# EAGLE library part ATMEGA644P/V_PDIP (library AVR micom)
ATMEGA644P/V PDIP pacage AVR micon series. producted by ATMEL.Co
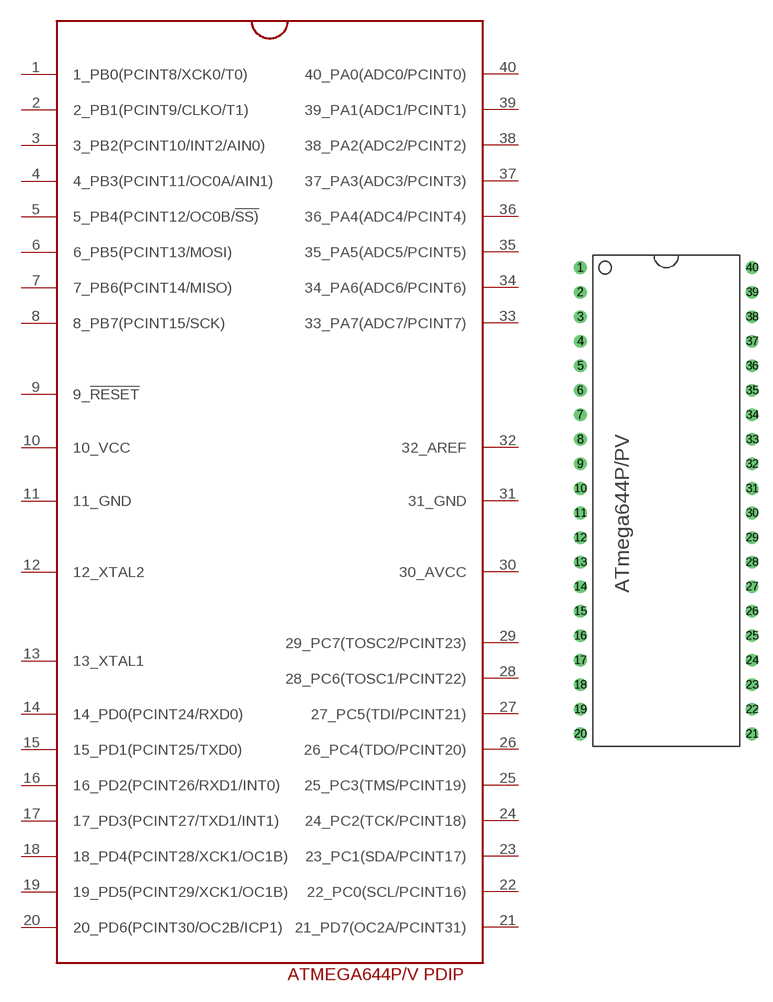
[diagram p1: symbol with the pads of ATMEGA644P/V_PDIP; footprint ATMEGA644P/V_PDIP]

Designator prefix -

## ATMEGA644P/V_PDIP  [ATMEGA644P/V_PDIP]
1  1_PB0(PCINT8/XCK0/T0)
2  2_PB1(PCINT9/CLKO/T1)
3  3_PB2(PCINT10/INT2/AIN0)
4  4_PB3(PCINT11/OC0A/AIN1)
5  5_PB4(PCINT12/OC0B/!SS)
6  6_PB5(PCINT13/MOSI)
7  7_PB6(PCINT14/MISO)
8  8_PB7(PCINT15/SCK)
9  9_!RESET
10  10_VCC
11  11_GND
12  12_XTAL2
13  13_XTAL1
14  14_PD0(PCINT24/RXD0)
15  15_PD1(PCINT25/TXD0)
16  16_PD2(PCINT26/RXD1/INT0)
17  17_PD3(PCINT27/TXD1/INT1)
18  18_PD4(PCINT28/XCK1/OC1B)
19  19_PD5(PCINT29/XCK1/OC1B)
20  20_PD6(PCINT30/OC2B/ICP1)
21  21_PD7(OC2A/PCINT31)
22  22_PC0(SCL/PCINT16)
23  23_PC1(SDA/PCINT17)
24  24_PC2(TCK/PCINT18)
25  25_PC3(TMS/PCINT19)
26  26_PC4(TDO/PCINT20)
27  27_PC5(TDI/PCINT21)
28  28_PC6(TOSC1/PCINT22)
29  29_PC7(TOSC2/PCINT23)
30  30_AVCC
31  31_GND
32  32_AREF
33  33_PA7(ADC7/PCINT7)
34  34_PA6(ADC6/PCINT6)
35  35_PA5(ADC5/PCINT5)
36  36_PA4(ADC4/PCINT4)
37  37_PA3(ADC3/PCINT3)
38  38_PA2(ADC2/PCINT2)
39  39_PA1(ADC1/PCINT1)
40  40_PA0(ADC0/PCINT0)

## Footprint ATMEGA644P/V_PDIP (pad centres in mm)
ATMEGA644P/V 10AU/20AU 40pin(PDIP) pacage AVR micon series. producted by ATMEL.Co
drill 0.8: 1 -8.89,22.86; 2 -8.89,20.32; 3 -8.89,17.78; 4 -8.89,15.24; 5 -8.89,12.7; 6 -8.89,10.16; 7 -8.89,7.62; 8 -8.89,5.08; 9 -8.89,2.54; 10 -8.89,0; 11 -8.89,-2.54; 12 -8.89,-5.08; 13 -8.89,-7.62; 14 -8.89,-10.16; 15 -8.89,-12.7; 16 -8.89,-15.24; 17 -8.89,-17.78; 18 -8.89,-20.32; 19 -8.89,-22.86; 20 -8.89,-25.4; 21 8.89,-25.4; 22 8.89,-22.86; 23 8.89,-20.32; 24 8.89,-17.78; 25 8.89,-15.24; 26 8.89,-12.7; 27 8.89,-10.16; 28 8.89,-7.62; 29 8.89,-5.08; 30 8.89,-2.54; 31 8.89,0; 32 8.89,2.54; 33 8.89,5.08; 34 8.89,7.62; 35 8.89,10.16; 36 8.89,12.7; 37 8.89,15.24; 38 8.89,17.78; 39 8.89,20.32; 40 8.89,22.86